# EAGLE library part ADP7104ARDZ-R7 (library aarf)
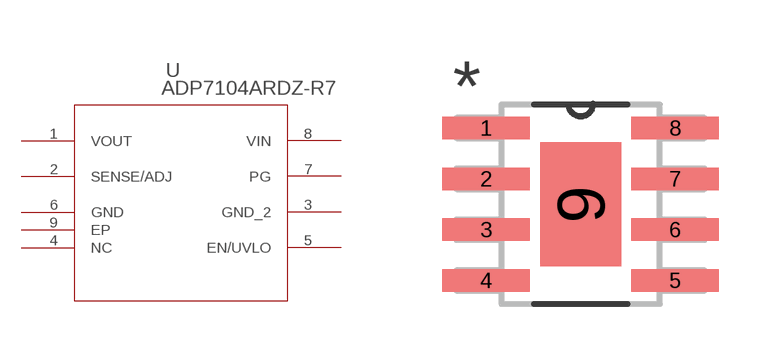
[diagram p1: symbol with the pads of RD_8_2; footprint RD_8_2]

Designator prefix U

## ADP7104ARDZ-R7  [RD_8_2]
1  VOUT  pas
2  SENSE/ADJ  pas
3  GND_2  pas
4  NC  pas
5  EN/UVLO  pas
6  GND  pas
7  PG  pas
8  VIN  pas
9  EP  pas

## Footprint RD_8_2 (pad centres in mm)
smd 2.184 x 0.559: 1 -2.362,1.905; 2 -2.362,0.635; 3 -2.362,-0.635; 4 -2.362,-1.905; 5 2.362,-1.905; 6 2.362,-0.635; 7 2.362,0.635; 8 2.362,1.905
smd 2.032 x 3.099: 9 0,0